# Altium integrated library EasyGate1541 DIP-40.IntLib: 10 symbols
Pins are listed as number, name and electrical type; pins without a type are passive.

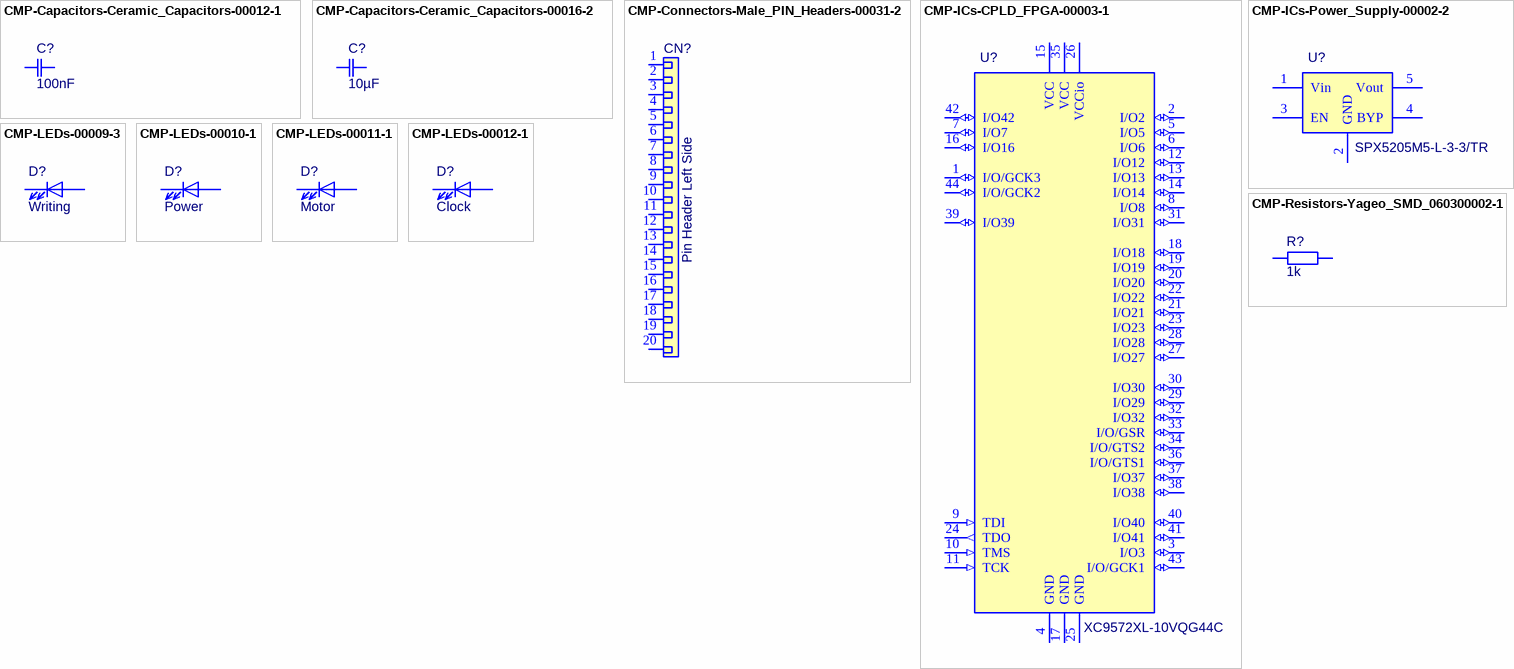
[diagram p0: symbols CMP-Capacitors-Ceramic_Capacitors-00012-1 to CMP-Resistors-Yageo_SMD_060300002-1]

## CMP-Capacitors-Ceramic_Capacitors-00012-1
designator C?, comment 100nF
KEMET         C0603C104J3RACTU             SMD Multilayer Ceramic Capacitor, 0603 [1608 Metric], 0.1 F, 25 V,  5%, X7R, C Series; Voltage Rating (DC): 25V; Height: 0.8mm; Dielectric: X7R; Case Code (Metric): 1608; Width: 0.031inch; Depth: 0.8mm; Min Operating Temperature: -55°C; Number of Pins: 2; Mount: Surface Mount,PCB; REACH SVHC: No SVHC; Packaging: Tape and Reel; Case Code (Imperial): 0603; Contact Plating: Tin,Matte; Length: 1.6mm; Case/Package: 0603; Lead Pitch: 0.7mm; Package Quantity: 4000; Tolerance: 5%; Radiation Hardening: No; Dielectric Material: Ceramic; Voltage: 25V; Termination: SMD/SMT; Capacitance: 100nF; Voltage Rating: 25V; Thickness: 0.034inch; Max Operating Temperature: 125°C; Manufacturer: KEMET; Manufacturer Part Number: C0603C104J3RACTU; Component Type: Ceramic Capacitors
footprint CAP 100nF SMD 0603 C0603C104J3RACTU (Chip Capacitor, 2-Leads, Body 1,60x0,80mm, IPC Medium Density)
pins: 1, 2

## CMP-Capacitors-Ceramic_Capacitors-00016-2
designator C?, comment 10µF
KEMET - C0805C106K8RACTU - CAP, 10µF, 10V, 10%, X7R, 0805; Dissipation Factor: 7.5%; Dielectric Material: Ceramic; Capacitance: 10uF; Max Operating Temperature: 125°C; Packaging: Tape and Reel; Case Code (Imperial): 0805; Depth: 1.25mm; Voltage: 10V; Voltage Rating (DC): 10V; Mount: Surface Mount,PCB; Min Operating Temperature: -55°C; Case Code (Metric): 2012; Case/Package: 0805; Thickness: 0.055inch; Termination: SMD/SMT; Voltage Rating: 10V; Height: 1.25mm; Dielectric: X7R; Width: 1.2mm; Package Quantity: 1; Length: 2mm; REACH SVHC: No SVHC; Tolerance: 10%; Manufacturer: KEMET; Manufacturer Part Number: C0805C106K8RACTU; Component Type: Ceramic Capacitors
footprint Kemet C0805CxxxK8RACTU Series H=1.4mm
pins: 1, 2

## CMP-Connectors-Male_PIN_Headers-00031-2
designator CN?, comment Pin Header Left Side
Conn Header Vert 20POS 2MM; Manufacturer: Preci-Dip; Manufacturer Part Number: 830-10-020-10-001101; Connector Type: Male Pin; Pitch: 0.079inch; Number of Positions: 20; Contact Plating: Gold; Termination: Solder; Contact Mating Length: 0.141inch; Color: Black; Number of Rows: 1; Package Quantity: 250; Mount: Through Hole; Packaging: Bulk; Component Type: Male PIN Headers
footprint Pin Header 01x20 2.54mm precision Horizontal Male (Precision)
pins: 1, 2, 3, 4, 5, 6, 7, 8, 9, 10, 11, 12, 13, 14, 15, 16, 17, 18, 19, 20

## CMP-ICs-CPLD_FPGA-00003-1
designator U?, comment XC9572XL-10VQG44C
XILINX - XC9572XL-10VQG44C. - CPLD, 72 MACROCELL, 3.3V, 44VQFP; Number of Logic Elements/Cells: 4; Frequency: 178MHz; Propagation Delay: 10ns; Speed Grade: 10; Number of Macrocells: 72; Max Frequency: 100MHz; Memory Type: FLASH; Number of Gates: 1600; Number of I/Os: 34; Min Supply Voltage: 3V; Max Supply Voltage: 3.6V; Packaging: Tray; Number of Logic Blocks (LABs): 4; REACH SVHC: No SVHC; Turn-On Delay Time: 10ns; Operating Supply Voltage: 3.3V; Mount: Surface Mount; Max Operating Temperature: 70°C; Radiation Hardening: No; Package Quantity: 160; Case/Package: TQFP; Min Operating Temperature: 0°C; Lead Free: Lead Free; Number of Pins: 44; Termination: SMD/SMT; Manufacturer: Xilinx; Manufacturer Part Number: XC9572XL-10VQG44C; Component Type: CPLD-FPGA
footprint XC9572XL-10VQG44C (TQFP, 44-Leads, Body 10,00x10,00mm, Pitch 0,80mm, IPC Medium Density)
pins: 1 I/O/GCK3 (io), 2 I/O2 (io), 3 I/O3 (io), 4 GND (power), 5 I/O5 (io), 6 I/O6 (io), 7 I/O7 (io), 8 I/O8 (io), 9 TDI (in), 10 TMS (in), 11 TCK (in), 12 I/O12 (io), 13 I/O13 (io), 14 I/O14 (io), 15 VCC (power), 16 I/O16 (io), 17 GND (power), 18 I/O18 (io), 19 I/O19 (io), 20 I/O20 (io), 21 I/O21 (io), 22 I/O22 (io), 23 I/O23 (io), 24 TDO (out), 25 GND (power), 26 VCCio (power), 27 I/O27 (io), 28 I/O28 (io), 29 I/O29 (io), 30 I/O30 (io), 31 I/O31 (io), 32 I/O32 (io), 33 I/O/GSR (io), 34 I/O/GTS2 (io), 35 VCC (power), 36 I/O/GTS1 (io), 37 I/O37 (io), 38 I/O38 (io), 39 I/O39 (io), 40 I/O40 (io), 41 I/O41 (io), 42 I/O42 (io), 43 I/O/GCK1 (io), 44 I/O/GCK2 (io)

## CMP-ICs-Power_Supply-00002-2
designator U?, comment SPX5205M5-L-3-3/TR
LDO Regulator Pos 3.3V 0.15A 5-Pin SOT-23 T/R; Manufacturer: Exar; Min Input Voltage: 2.5V; Number of Outputs: 1; Dropout Voltage: 210mV; Accuracy: 1%; Polarity: Positive; Max Input Voltage: 16V; Output Type: Fixed; Output Current: 150mA; Quiescent Current: 1uA; Packaging: Tape and Reel; Lead Free: Lead Free; Case/Package: SOT-23; Height: 1.15mm; Number of Regulators: 1; Max Operating Temperature: 125°C; Min Operating Temperature: -40°C; Output Voltage: 3.3V; Width: 1.6mm; Radiation Hardening: No; Mount: Surface Mount; Length: 2.9mm; Max Output Current: 150mA; Min Output Voltage: 3.3V; Number of Pins: 5; Manufacturer Part Number: SPX5205M5-L-3-3/TR; Component Type: Power Supplies
footprint SOT-23-5
pins: 1 Vin (power), 2 GND (power), 3 EN, 4 BYP, 5 Vout (power)

## CMP-LEDs-00009-3
designator D?, comment Writing
SMD LED red 2.7. . .3.15 V Bottom View, 25-21SURC/S530-A4/TR8, Everlight Electronics; Forward Current: 20mA; Manufacturer: Everlight; Manufacturer Part Number: 25-21SURC/S530-A4/TR8; Component Type: LEDs
footprint LED red Gullwing Everlight 25-21SURC/S530-A4/TR8
pins: 1, 2

## CMP-LEDs-00010-1
designator D?, comment Power
LED Uni-Color Green 518nm 2-Pin Chip LED T/R; Manufacturer: Everlight; Manufacturer Part Number: 25-21/GHC-YSU/2A; Number of LEDs: 1; Forward Current: 20mA; Lens Style: Diffused,Colorless,Circular; Forward Voltage: 3.5V; Dominant Wavelength: 525nm; Viewing Angle: 60°; Color: Green; Number of Pins: 2; Radiation Hardening: No; Mount: Surface Mount; Packaging: Tape and Reel; Component Type: LEDs
footprint LED green Gullwing Everlight 25-21/GHC-YSU/2A
pins: 1, 2

## CMP-LEDs-00011-1
designator D?, comment Motor
Standard LEDs - SMD SMD LED; Manufacturer: Everlight; Manufacturer Part Number: 25-21/T1D-ANQHY/2A; Reverse Voltage: 5V; Test Current: 5mA; Lens Color: Yellow; Viewing Angle: 130°; Forward Current: 25mA; Color: White; Number of LEDs: 1; Lens Transparency: Diffused; Forward Voltage: 2.92V; Luminous Intensity: 70mcd; Lens Style: Diffused,Colored,Circular; Power Dissipation: 95mW; Mount: Surface Mount; Radiation Hardening: No; Case/Package: SMD/SMT; Max Operating Temperature: 85°C; Number of Pins: 2; Width: 1.6mm; Length: 3.2mm; Depth: 1.6mm; Packaging: Tape and Reel; Min Operating Temperature: -40°C; Package Quantity: 2000; Height: 1.1mm; Number of Elements: 1; Component Type: LEDs
footprint LED white Gullwing Everlight 25-21/T1D-ANQHY/2A
pins: 1, 2

## CMP-LEDs-00012-1
designator D?, comment Clock
LED Uni-Color Blue 468nm Chip LED 2-Pin SMD T/R; Manufacturer: Everlight; Manufacturer Part Number: 25-21/BHC-XR2S1/2A; Forward Current: 20mA; Component Type: LEDs
footprint LED blue Gullwing Everlight 25-21/BHC-XR2S1/2A
pins: 1, 2

## CMP-Resistors-Yageo_SMD_060300002-1
designator R?, comment 1k
RES SMD 1K OHM 1% 1/10W 0603; Manufacturer: Yageo; Manufacturer Part Number: RC0603FR-071KL; Power Rating: 100mW; Resistance: 1kR; Voltage Rating: 50V; Temperature Coefficient: 100ppm/°C; Case/Package: 0603; REACH SVHC: No SVHC; Length: 1.6mm; Tolerance: 1%; Case Code (Metric): 1608; Contact Plating: Tin,Matte; Height: 0.45mm; Case Code (Imperial): 0603; Packaging: Tape and Reel; Max Operating Temperature: 155°C; Military Standard: Not; Lead Free: Lead Free; Depth: 0.8mm; Termination: SMD/SMT; Min Operating Temperature: -55°C; Composition: Thick Film; Radiation Hardening: No; Component Type: Yageo SMD 0603
footprint 1k Ohm R 0603 SMD (Chip Resistor 2-Leads, Body 1,60x0,80mm, IPC Medium Density)
pins: 1, 2